# EAGLE library part 1844 (library Mentor-FEL)
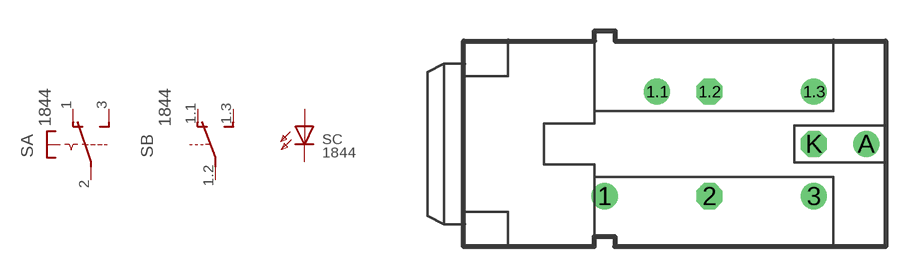
[diagram p1: symbol with the pads of 1844; footprint 1844]

Designator prefix S; gates A=DS- B=U-2 C=LED

## 1844  [1844]
1  A:O  pas
1.1  B:O  pas
1.2  B:P  pas
1.3  B:S  pas
2  A:P  pas
3  A:S  pas
A  C:A  pas
K  C:K  pas

## Footprint 1844 (pad centres in mm)
drill 0.61 pad 1.27: 1 0,-2.54; 1.1 2.54,2.54; 1.3 10.16,2.54; 3 10.16,-2.54; A 12.7,0
drill 0.61 pad 1.27 octagon: 1.2 5.08,2.54; 2 5.08,-2.54; K 10.16,0